# Altium schematic symbol library SCH - MCU - NUVOTON - NUVOTON M251KG6AE.SchLib: 1 symbol
Pins are listed as number, name and electrical type; pins without a type are passive.

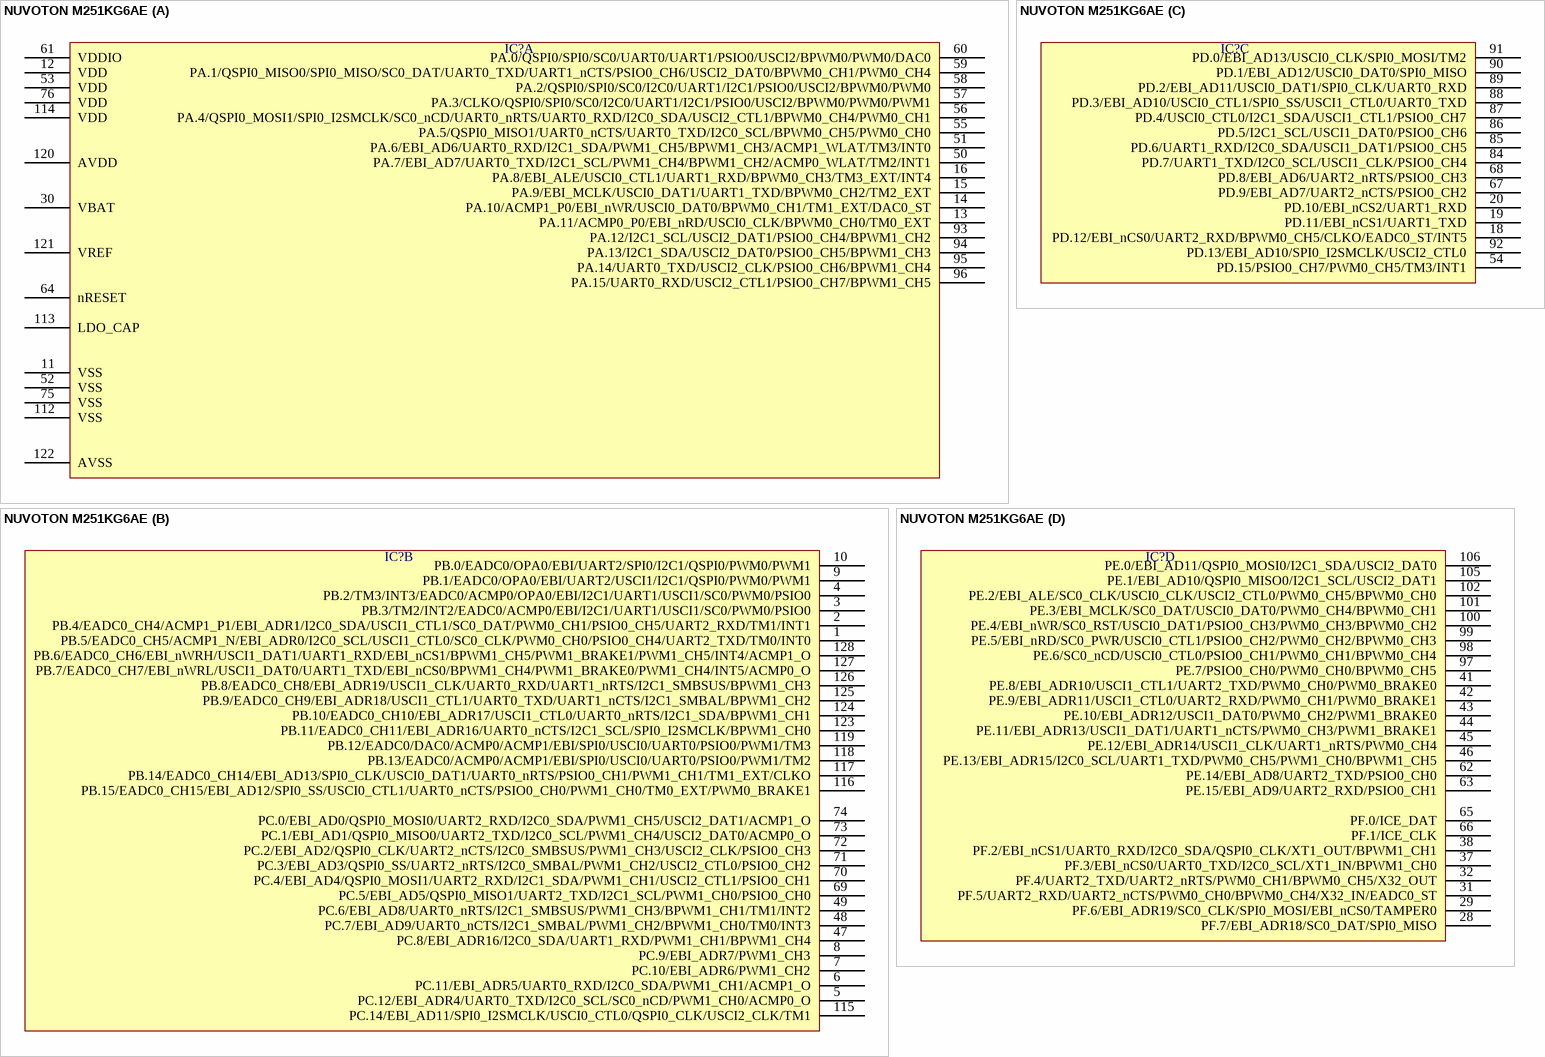
[diagram p0: symbol NUVOTON M251KG6AE]

## NUVOTON M251KG6AE
designator IC?  (value not drawn)
part A pins: 11 VSS, 12 VDD, 13 PA.11/ACMP0_P0/EBI_nRD/USCI0_CLK/BPWM0_CH0/TM0_EXT, 14 PA.10/ACMP1_P0/EBI_nWR/USCI0_DAT0/BPWM0_CH1/TM1_EXT/DAC0_ST, 15 PA.9/EBI_MCLK/USCI0_DAT1/UART1_TXD/BPWM0_CH2/TM2_EXT, 16 PA.8/EBI_ALE/USCI0_CTL1/UART1_RXD/BPWM0_CH3/TM3_EXT/INT4, 30 VBAT, 50 PA.7/EBI_AD7/UART0_TXD/I2C1_SCL/PWM1_CH4/BPWM1_CH2/ACMP0_WLAT/TM2/INT1, 51 PA.6/EBI_AD6/UART0_RXD/I2C1_SDA/PWM1_CH5/BPWM1_CH3/ACMP1_WLAT/TM3/INT0, 52 VSS, 53 VDD, 55 PA.5/QSPI0_MISO1/UART0_nCTS/UART0_TXD/I2C0_SCL/BPWM0_CH5/PWM0_CH0, 56 PA.4/QSPI0_MOSI1/SPI0_I2SMCLK/SC0_nCD/UART0_nRTS/UART0_RXD/I2C0_SDA/USCI2_CTL1/BPWM0_CH4/PWM0_CH1, 57 PA.3/CLKO/QSPI0/SPI0/SC0/I2C0/UART1/I2C1/PSIO0/USCI2/BPWM0/PWM0/PWM1, 58 PA.2/QSPI0/SPI0/SC0/I2C0/UART1/I2C1/PSIO0/USCI2/BPWM0/PWM0, 59 PA.1/QSPI0_MISO0/SPI0_MISO/SC0_DAT/UART0_TXD/UART1_nCTS/PSIO0_CH6/USCI2_DAT0/BPWM0_CH1/PWM0_CH4, 60 PA.0/QSPI0/SPI0/SC0/UART0/UART1/PSIO0/USCI2/BPWM0/PWM0/DAC0, 61 VDDIO, 64 nRESET, 75 VSS, 76 VDD, 93 PA.12/I2C1_SCL/USCI2_DAT1/PSIO0_CH4/BPWM1_CH2, 94 PA.13/I2C1_SDA/USCI2_DAT0/PSIO0_CH5/BPWM1_CH3, 95 PA.14/UART0_TXD/USCI2_CLK/PSIO0_CH6/BPWM1_CH4, 96 PA.15/UART0_RXD/USCI2_CTL1/PSIO0_CH7/BPWM1_CH5, 112 VSS, 113 LDO_CAP, 114 VDD, 120 AVDD, 121 VREF, 122 AVSS
part B pins: 1 PB.5/EADC0_CH5/ACMP1_N/EBI_ADR0/I2C0_SCL/USCI1_CTL0/SC0_CLK/PWM0_CH0/PSIO0_CH4/UART2_TXD/TM0/INT0, 2 PB.4/EADC0_CH4/ACMP1_P1/EBI_ADR1/I2C0_SDA/USCI1_CTL1/SC0_DAT/PWM0_CH1/PSIO0_CH5/UART2_RXD/TM1/INT1, 3 PB.3/TM2/INT2/EADC0/ACMP0/EBI/I2C1/UART1/USCI1/SC0/PWM0/PSIO0, 4 PB.2/TM3/INT3/EADC0/ACMP0/OPA0/EBI/I2C1/UART1/USCI1/SC0/PWM0/PSIO0, 5 PC.12/EBI_ADR4/UART0_TXD/I2C0_SCL/SC0_nCD/PWM1_CH0/ACMP0_O, 6 PC.11/EBI_ADR5/UART0_RXD/I2C0_SDA/PWM1_CH1/ACMP1_O, 7 PC.10/EBI_ADR6/PWM1_CH2, 8 PC.9/EBI_ADR7/PWM1_CH3, 9 PB.1/EADC0/OPA0/EBI/UART2/USCI1/I2C1/QSPI0/PWM0/PWM1, 10 PB.0/EADC0/OPA0/EBI/UART2/SPI0/I2C1/QSPI0/PWM0/PWM1, 47 PC.8/EBI_ADR16/I2C0_SDA/UART1_RXD/PWM1_CH1/BPWM1_CH4, 48 PC.7/EBI_AD9/UART0_nCTS/I2C1_SMBAL/PWM1_CH2/BPWM1_CH0/TM0/INT3, 49 PC.6/EBI_AD8/UART0_nRTS/I2C1_SMBSUS/PWM1_CH3/BPWM1_CH1/TM1/INT2, 69 PC.5/EBI_AD5/QSPI0_MISO1/UART2_TXD/I2C1_SCL/PWM1_CH0/PSIO0_CH0, 70 PC.4/EBI_AD4/QSPI0_MOSI1/UART2_RXD/I2C1_SDA/PWM1_CH1/USCI2_CTL1/PSIO0_CH1, 71 PC.3/EBI_AD3/QSPI0_SS/UART2_nRTS/I2C0_SMBAL/PWM1_CH2/USCI2_CTL0/PSIO0_CH2, 72 PC.2/EBI_AD2/QSPI0_CLK/UART2_nCTS/I2C0_SMBSUS/PWM1_CH3/USCI2_CLK/PSIO0_CH3, 73 PC.1/EBI_AD1/QSPI0_MISO0/UART2_TXD/I2C0_SCL/PWM1_CH4/USCI2_DAT0/ACMP0_O, 74 PC.0/EBI_AD0/QSPI0_MOSI0/UART2_RXD/I2C0_SDA/PWM1_CH5/USCI2_DAT1/ACMP1_O, 115 PC.14/EBI_AD11/SPI0_I2SMCLK/USCI0_CTL0/QSPI0_CLK/USCI2_CLK/TM1, 116 PB.15/EADC0_CH15/EBI_AD12/SPI0_SS/USCI0_CTL1/UART0_nCTS/PSIO0_CH0/PWM1_CH0/TM0_EXT/PWM0_BRAKE1, 117 PB.14/EADC0_CH14/EBI_AD13/SPI0_CLK/USCI0_DAT1/UART0_nRTS/PSIO0_CH1/PWM1_CH1/TM1_EXT/CLKO, 118 PB.13/EADC0/ACMP0/ACMP1/EBI/SPI0/USCI0/UART0/PSIO0/PWM1/TM2, 119 PB.12/EADC0/DAC0/ACMP0/ACMP1/EBI/SPI0/USCI0/UART0/PSIO0/PWM1/TM3, 123 PB.11/EADC0_CH11/EBI_ADR16/UART0_nCTS/I2C1_SCL/SPI0_I2SMCLK/BPWM1_CH0, 124 PB.10/EADC0_CH10/EBI_ADR17/USCI1_CTL0/UART0_nRTS/I2C1_SDA/BPWM1_CH1, 125 PB.9/EADC0_CH9/EBI_ADR18/USCI1_CTL1/UART0_TXD/UART1_nCTS/I2C1_SMBAL/BPWM1_CH2, 126 PB.8/EADC0_CH8/EBI_ADR19/USCI1_CLK/UART0_RXD/UART1_nRTS/I2C1_SMBSUS/BPWM1_CH3, 127 PB.7/EADC0_CH7/EBI_nWRL/USCI1_DAT0/UART1_TXD/EBI_nCS0/BPWM1_CH4/PWM1_BRAKE0/PWM1_CH4/INT5/ACMP0_O, 128 PB.6/EADC0_CH6/EBI_nWRH/USCI1_DAT1/UART1_RXD/EBI_nCS1/BPWM1_CH5/PWM1_BRAKE1/PWM1_CH5/INT4/ACMP1_O
part C pins: 18 PD.12/EBI_nCS0/UART2_RXD/BPWM0_CH5/CLKO/EADC0_ST/INT5, 19 PD.11/EBI_nCS1/UART1_TXD, 20 PD.10/EBI_nCS2/UART1_RXD, 54 PD.15/PSIO0_CH7/PWM0_CH5/TM3/INT1, 67 PD.9/EBI_AD7/UART2_nCTS/PSIO0_CH2, 68 PD.8/EBI_AD6/UART2_nRTS/PSIO0_CH3, 84 PD.7/UART1_TXD/I2C0_SCL/USCI1_CLK/PSIO0_CH4, 85 PD.6/UART1_RXD/I2C0_SDA/USCI1_DAT1/PSIO0_CH5, 86 PD.5/I2C1_SCL/USCI1_DAT0/PSIO0_CH6, 87 PD.4/USCI0_CTL0/I2C1_SDA/USCI1_CTL1/PSIO0_CH7, 88 PD.3/EBI_AD10/USCI0_CTL1/SPI0_SS/USCI1_CTL0/UART0_TXD, 89 PD.2/EBI_AD11/USCI0_DAT1/SPI0_CLK/UART0_RXD, 90 PD.1/EBI_AD12/USCI0_DAT0/SPI0_MISO, 91 PD.0/EBI_AD13/USCI0_CLK/SPI0_MOSI/TM2, 92 PD.13/EBI_AD10/SPI0_I2SMCLK/USCI2_CTL0
part D pins: 28 PF.7/EBI_ADR18/SC0_DAT/SPI0_MISO, 29 PF.6/EBI_ADR19/SC0_CLK/SPI0_MOSI/EBI_nCS0/TAMPER0, 31 PF.5/UART2_RXD/UART2_nCTS/PWM0_CH0/BPWM0_CH4/X32_IN/EADC0_ST, 32 PF.4/UART2_TXD/UART2_nRTS/PWM0_CH1/BPWM0_CH5/X32_OUT, 37 PF.3/EBI_nCS0/UART0_TXD/I2C0_SCL/XT1_IN/BPWM1_CH0, 38 PF.2/EBI_nCS1/UART0_RXD/I2C0_SDA/QSPI0_CLK/XT1_OUT/BPWM1_CH1, 41 PE.8/EBI_ADR10/USCI1_CTL1/UART2_TXD/PWM0_CH0/PWM0_BRAKE0, 42 PE.9/EBI_ADR11/USCI1_CTL0/UART2_RXD/PWM0_CH1/PWM0_BRAKE1, 43 PE.10/EBI_ADR12/USCI1_DAT0/PWM0_CH2/PWM1_BRAKE0, 44 PE.11/EBI_ADR13/USCI1_DAT1/UART1_nCTS/PWM0_CH3/PWM1_BRAKE1, 45 PE.12/EBI_ADR14/USCI1_CLK/UART1_nRTS/PWM0_CH4, 46 PE.13/EBI_ADR15/I2C0_SCL/UART1_TXD/PWM0_CH5/PWM1_CH0/BPWM1_CH5, 62 PE.14/EBI_AD8/UART2_TXD/PSIO0_CH0, 63 PE.15/EBI_AD9/UART2_RXD/PSIO0_CH1, 65 PF.0/ICE_DAT, 66 PF.1/ICE_CLK, 97 PE.7/PSIO0_CH0/PWM0_CH0/BPWM0_CH5, 98 PE.6/SC0_nCD/USCI0_CTL0/PSIO0_CH1/PWM0_CH1/BPWM0_CH4, 99 PE.5/EBI_nRD/SC0_PWR/USCI0_CTL1/PSIO0_CH2/PWM0_CH2/BPWM0_CH3, 100 PE.4/EBI_nWR/SC0_RST/USCI0_DAT1/PSIO0_CH3/PWM0_CH3/BPWM0_CH2, 101 PE.3/EBI_MCLK/SC0_DAT/USCI0_DAT0/PWM0_CH4/BPWM0_CH1, 102 PE.2/EBI_ALE/SC0_CLK/USCI0_CLK/USCI2_CTL0/PWM0_CH5/BPWM0_CH0, 105 PE.1/EBI_AD10/QSPI0_MISO0/I2C1_SCL/USCI2_DAT1, 106 PE.0/EBI_AD11/QSPI0_MOSI0/I2C1_SDA/USCI2_DAT0